# Altium schematic symbol library Power_connectors.SchLib: 2 symbols
Pins are listed as number, name and electrical type; pins without a type are passive.

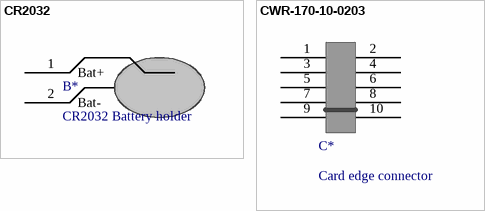
[diagram p0: symbols CR2032 to CWR-170-10-0203]

## CR2032
designator B*, comment CR2032 Battery holder
ComponentLink1Description: LCSC; ComponentLink1URL: https://lcsc.com/product-detail/Battery-Holders-Clips-Contacts_CR2032Curved-feet-3V_C70373.html; ComponentLink2Description: Mouser; ComponentLink2URL: https://www.mouser.se/ProductDetail/Linx-Technologies/BAT-HLD-001-THM?qs=sGAEpiMZZMvxqoKe%252bDjhrkjf0j3CDeLHbAtjvuZ9sYg%3d
footprint CR2032_Holder (CR2032 battery holder)
footprint BAT-HLD-001-THM (Holder for coin cell battery CR2032/CR2025 through hole)
pins: 1 Bat+ (power), 2 Bat- (power)

## CWR-170-10-0203
designator C*, comment Card edge connector
Standard kortkantskontakter Card Edge Connector 10 Pin RoHS Plating; ComponentLink1Description: Mouser; ComponentLink1URL: https://www.mouser.se/ProductDetail/CW-Industries/CWR-170-10-0203?qs=sGAEpiMZZMtWxQ3D3EXBN6kjbCKiDXidH%2fDml%252b%2frJDI%3d
footprint CARDEDGE_CWR (CW Industries card edge connector)
pins: 1 (power), 2 (power), 3 (power), 4 (power), 5 (power), 6 (power), 7 (power), 8 (power), 9 (power), 10 (power)